# Altium schematic symbol library SMS-120-01-T-S.SchLib: 1 symbol
Pins are listed as number, name and electrical type; pins without a type are passive.

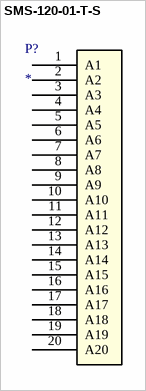
[diagram p0: symbol SMS-120-01-T-S]

## SMS-120-01-T-S
designator P?
No Description Available; Mfr_Name: Samtec Inc; RefDes: RefDes; Type: Type
footprint SMS-S-120
pins: 1 A1, 2 A2, 3 A3, 4 A4, 5 A5, 6 A6, 7 A7, 8 A8, 9 A9, 10 A10, 11 A11, 12 A12, 13 A13, 14 A14, 15 A15, 16 A16, 17 A17, 18 A18, 19 A19, 20 A20